# Altium schematic symbol library Connectors$.SchLib: 128 symbols
Pins are listed as number, name and electrical type; pins without a type are passive.

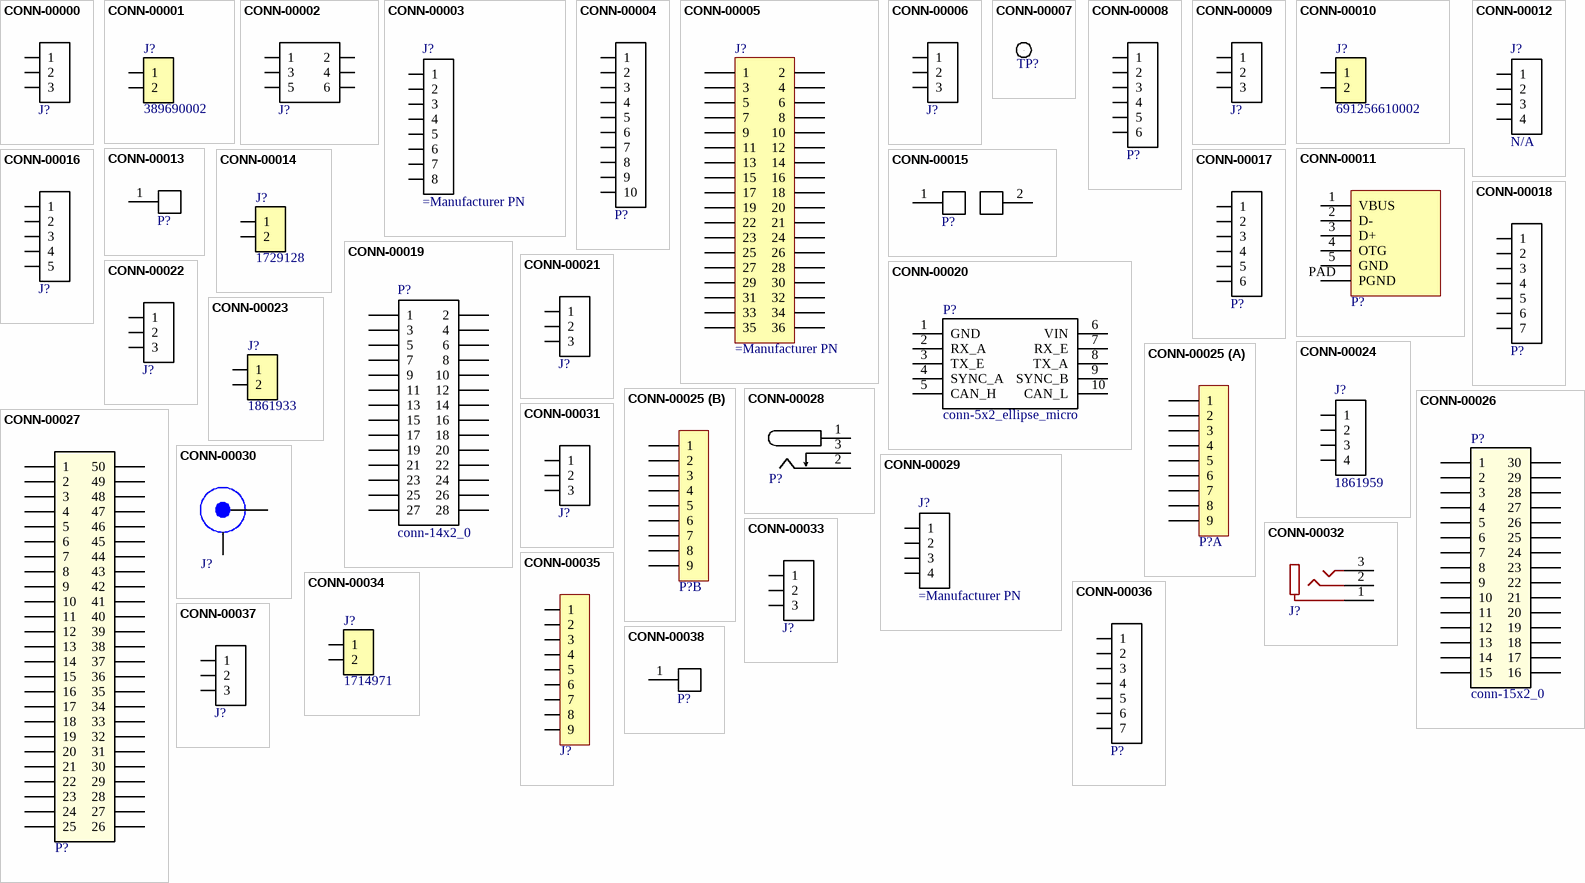
[diagram p0: symbols CONN-00000 to CONN-00038]

## CONN-00000
designator J?, comment conn-3x1_0  (value not drawn)
Term Blk, 3 Pos, 18A; Part Number: CONN-00000; Manufacturer: Phoenix Contact; Manufacturer PN: 1935174; Positions per level: 3; Levels: 1; Current: 18; Type: Terminal Block; Cost: 1.19
footprint TERM_5MM_3X1_0
pins: 1, 2, 3

## CONN-00001
designator J?, comment 389690002
Barrier Blk, 2 Pos, 50 A; Part Number: CONN-00001; Manufacturer: Molex; Positions per level: 2; Levels: 1; Current: 50; Type: Barrier Block; Manufacturer PN: 389690002; Cost: 1.68; Weight: 7.5
footprint BARR_0.5IN_2x1_0
pins: 1, 2

## CONN-00002
designator J?, comment conn-3x2_0  (value not drawn)
Header, 3x2, 0.1"; Part Number: CONN-00002; Manufacturer: Wurth Electronics Inc.; Manufacturer PN: 61300621121; Positions per level: 3; Levels: 2; Type: Header; Current: 3; Cost: 0.54
footprint HDDR_3X2_0
pins: 1, 2, 3, 4, 5, 6

## CONN-00003
designator J?
Header 8x1, 0.1"; Part Number: CONN-00003; Positions per level: 8; Levels: 1
footprint HDDR_8X1_0
pins: 1, 2, 3, 4, 5, 6, 7, 8

## CONN-00004
designator P?, comment conn-10x1_0  (value not drawn)
Header 10x1, 0.1"; Part Number: CONN-00004; Positions per level: 10; Levels: 1
footprint HDDR_10X1_0
pins: 1, 2, 3, 4, 5, 6, 7, 8, 9, 10

## CONN-00005
designator J?
Header 18x2, 0.1"; Part Number: CONN-00005; Positions per level: 18; Levels: 2
footprint HDDR_18X2_0
pins: 1, 2, 3, 4, 5, 6, 7, 8, 9, 10, 11, 12, 13, 14, 15, 16, 17, 18, 19, 20, 21, 22, 23, 24, 25, 26, 27, 28, 29, 30, 31, 32, 33, 34, 35, 36

## CONN-00006
designator J?, comment conn-3x1_0  (value not drawn)
JST XH 3x1, TH; Part Number: CONN-00006; Manufacturer PN: B3B-XH-A; Positions per level: 3; Levels: 1; Type: Header; Current: 3; Manufacturer: JST
footprint JST_XH_3_0
pins: 1, 2, 3

## CONN-00007
designator TP?, comment th  (value not drawn)
Thru-hole, 0.03"; Part Number: CONN-00007; Positions per level: 1; Type: Thru-hole; Levels: 1
footprint th_30
pins: 1

## CONN-00008
designator P?, comment conn-6x1_0  (value not drawn)
Header 6x1, 0.1"; Part Number: CONN-00008; Positions per level: 6; Levels: 1
footprint HDDR_6X1_0
pins: 1, 2, 3, 4, 5, 6

## CONN-00009
designator J?, comment conn-3x1_0  (value not drawn)
Term Blk, 3 Pos, 30A, 0.25" Pitch, 10-30 AWG, Rising Cage Clamp; Part Number: CONN-00009; Manufacturer: Phoenix Contact; Manufacturer PN: 1714968; Positions per level: 3; Levels: 1; Current: 30; Type: Terminal Block
footprint PHOENIX_MKDS_6.35MM_3x1
pins: 1, 2, 3

## CONN-00010
designator J?, comment 691256610002
Term Blk, 2 Pos, 0.4", 58A; Part Number: CONN-00010; Manufacturer: Wurth Electronics Inc.; Positions per level: 2; Levels: 1; Current: 58; Type: Terminal Block; Manufacturer PN: 691256610002
footprint TERM_0.4IN_2x1_0
pins: 1, 2

## CONN-00011
designator P?, comment usb_micro_b  (value not drawn)
USB Micro B Type Receptacle; Part Number: CONN-00011; Manufacturer: Amphenol; Manufacturer PN: 10118192; Positions per level: 5; Levels: 1; Current: 1.8; Type: USB Micro B
footprint 10118192
pins: 1 VBUS, 2 D-, 3 D+, 4 OTG, 5 GND, PAD PGND

## CONN-00012
designator J?, comment N/A
Pad 4x1, 1mm; Part Number: CONN-00012; Positions per level: 4; Levels: 1; Manufacturer PN: N/A
footprint pad_rect_4x1_1mm
pins: 1, 2, 3, 4

## CONN-00013
designator P?, comment conn-1x1_0  (value not drawn)
Pad 1x1, 1mm; Part Number: CONN-00013; Positions per level: 1; Levels: 1; Manufacturer PN: N/A
footprint pad_rect_1x1_8mm
pins: 1 P

## CONN-00014
designator J?, comment 1729128
Term Blk, 2 Pos, 0.2", 10A, 14-30 AWG, Rising Cage Clamp; Part Number: CONN-00014; Manufacturer: Phoenix Contact; Positions per level: 2; Levels: 1; Current: 10; Type: Terminal Block; Manufacturer PN: 1729128
footprint PHOENIX_MKDS_5.08MM_2x1
pins: 1, 2

## CONN-00015
designator P?, comment conn-fuse-holder_0  (value not drawn)
Fuse Holder, 30A, 500V, LP-Mini 897, ATOF 257; Part Number: CONN-00015; Manufacturer: Keystone Electronics; Manufacturer PN: 3557-2; Positions per level: 2; Levels: 1; Current: 30; Cost: 1.03
footprint FUSE_HOLDER_KEYSTONE_3557-2
pins: 1, 2

## CONN-00016
designator J?, comment conn-5x1_0  (value not drawn)
JST PHR 5x1; Part Number: CONN-00016; Positions per level: 5; Levels: 1; Type: Header; Manufacturer: JST
footprint JST_PHR_5_0
pins: 1, 2, 3, 4, 5

## CONN-00017
designator P?, comment conn-6x1_0  (value not drawn)
JST PHR 6x1; Part Number: CONN-00017; Positions per level: 6; Levels: 1; Type: Header; Manufacturer: JST
footprint JST_PHR_6_0
pins: 1, 2, 3, 4, 5, 6

## CONN-00018
designator P?, comment conn-7x1_0  (value not drawn)
JST PHR 7x1; Part Number: CONN-00018; Positions per level: 7; Levels: 1; Type: Header; Manufacturer: JST
footprint JST_PHR_7_0
pins: 1, 2, 3, 4, 5, 6, 7

## CONN-00019
designator P?, comment conn-14x2_0
Header, 14x2, 0.1"; Part Number: CONN-00019; Positions per level: 14; Levels: 2; Type: Header
footprint HDDR_14x2_0
pins: 1, 2, 3, 4, 5, 6, 7, 8, 9, 10, 11, 12, 13, 14, 15, 16, 17, 18, 19, 20, 21, 22, 23, 24, 25, 26, 27, 28

## CONN-00020
designator P?, comment conn-5x2_ellipse_micro
Harwin Gecko connector, 10-pin, thru-hole; Part Number: CONN-00020; Manufacturer PN: G125-MV11005L0P; Positions per level: 5; Levels: 2; Type: Thru-hole; Manufacturer: Harwin; Cost: 4.45
footprint HARWIN_GECKO_5x2
pins: 1 GND, 2 RX_A, 3 TX_E, 4 SYNC_A, 5 CAN_H, 6 VIN, 7 RX_E, 8 TX_A, 9 SYNC_B, 10 CAN_L

## CONN-00021
designator J?, comment conn-3x1_0  (value not drawn)
Term Blk, 3 Pos, 0.2", 10A, 14-30 AWG, Rising Cage Clamp; Part Number: CONN-00021; Manufacturer: Phoenix Contact; Manufacturer PN: 1729131; Positions per level: 3; Levels: 1; Current: 10; Type: Terminal Block; Cost: 0.79
footprint PHOENIX_MKDS_5.08MM_3x1
pins: 1, 2, 3

## CONN-00022
designator J?, comment conn-3x1_0  (value not drawn)
Term Blk, 3 Pos, 8A, 3.5mm Pitch, Screwless; Part Number: CONN-00022; Manufacturer: Phoenix Contact; Manufacturer PN: 1861946; Positions per level: 3; Levels: 1; Current: 8; Type: Terminal Block; Cost: 1.19; Weight: 1.7
footprint TERM_3.50MM_3x1_0
pins: 1, 2, 3

## CONN-00023
designator J?, comment 1861933
Term Blk, 2 Pos, 8A, 3.5mm Pitch, Screwless; Part Number: CONN-00023; Manufacturer: Phoenix Contact; Positions per level: 2; Levels: 1; Current: 8; Type: Terminal Block; Manufacturer PN: 1861933; Cost: 0.79; Weight: 1.13
footprint TERM_3.50MM_2x1_0
pins: 1, 2

## CONN-00024
designator J?, comment 1861959
Term Blk, 4 Pos, 8A, 3.5mm Pitch, Screwless; Part Number: CONN-00024; Manufacturer: Phoenix Contact; Positions per level: 4; Levels: 1; Current: 8; Type: Terminal Block; Manufacturer PN: 1861959; Cost: 1.67; Weight: 2.3
footprint TERM_3.50MM_4x1_0
pins: 1, 2, 3, 4

## CONN-00025
designator P?, comment conn-9x1_x2  (value not drawn)
D-Sub, Dual 9-pin; Part Number: CONN-00025; Manufacturer: NorComp; Manufacturer PN: 178-009-513R571; Positions per level: 9; Levels: 2; Type: Thru-hole; Cost: 7.32; Weight: 22.69
footprint D_SUB_9x2_0
part A pins: 1, 2, 3, 4, 5, 6, 7, 8, 9
part B pins: 10 1, 11 2, 12 3, 13 4, 14 5, 15 6, 16 7, 17 8, 18 9

## CONN-00026
designator P?, comment conn-15x2_0
D-Sub, Dual 15-pin; Part Number: CONN-00026; Manufacturer: NorComp; Manufacturer PN: 178-015-513R571; Positions per level: 15; Levels: 2; Type: Thru-hole; Cost: 9.34
footprint D_SUB_15x2_0
pins: 1, 2, 3, 4, 5, 6, 7, 8, 9, 10, 11, 12, 13, 14, 15, 16, 17, 18, 19, 20, 21, 22, 23, 24, 25, 26, 27, 28, 29, 30

## CONN-00027
designator P?, comment conn-25x2_0  (value not drawn)
D-Sub, Dual 25-pin; Part Number: CONN-00027; Manufacturer: NorComp; Manufacturer PN: 178-025-513R491; Positions per level: 25; Levels: 2; Type: Thru-hole; Cost: 10.21
footprint D_SUB_25x2_0
pins: 1, 2, 3, 4, 5, 6, 7, 8, 9, 10, 11, 12, 13, 14, 15, 16, 17, 18, 19, 20, 21, 22, 23, 24, 25, 26, 27, 28, 29, 30, 31, 32, 33, 34, 35, 36, 37, 38, 39, 40, 41, 42, 43, 44, 45, 46, 47, 48, 49, 50

## CONN-00028
designator P?, comment conn-barrel_2.5x5.5MM_0  (value not drawn)
Barrel, 2.5x5.5mm; Part Number: CONN-00028; Manufacturer: CUI; Manufacturer PN: PJ-102B; Current: 2.5; Type: Thru-hole; Cost: 0.64
footprint BARREL_2.5x5.5MM_0
pins: 1 VCC, 2 GND, 3

## CONN-00029
designator J?
Header 4x1, 0.1"; Part Number: CONN-00029; Positions per level: 4; Levels: 1; Type: Header
footprint HDDR_4x1_0
pins: 1, 2, 3, 4

## CONN-00030
designator J?, comment conn-bnc_0  (value not drawn)
BNC Jack, 75Ohm, Edge Mount; Part Number: CONN-00030; Manufacturer: Samtec; Manufacturer PN: BNC7T-J-P-GN-ST-EM1; Type: BNC; Cost: 10.24
footprint BNC_SAMTEC
pins: 1, 2

## CONN-00031
designator J?, comment conn-3x1_0  (value not drawn)
Barrier Blk, 3 Pos, 20A; Part Number: CONN-00031; Manufacturer: TE Connectivity; Manufacturer PN: 4DB-P108-03; Positions per level: 3; Levels: 1; Current: 20; Type: Barrier Block; Cost: 1.18
footprint BARR_4DB-P108-03
pins: 1, 2, 3

## CONN-00032
designator J?, comment conn-audio-3.5MM  (value not drawn)
Audio Jack, 3.5mm; Part Number: CONN-00032; Manufacturer: CUI; Manufacturer PN: SJ1-3553NG; Type: Audio Jack
footprint AUDIO_3.5MM_SJ1-3553NG
pins: 1, 2, 3

## CONN-00033
designator J?, comment conn-3x1_0  (value not drawn)
Barrier Blk, 3 Pos, 50 A; Part Number: CONN-00033; Manufacturer: Molex; Manufacturer PN: 389690003; Positions per level: 3; Levels: 1; Current: 50; Type: Barrier Block; Cost: 2.96; Weight: 10
footprint BARR_0.5IN_3x1_0
pins: 1, 2, 3

## CONN-00034
designator J?, comment 1714971
Term Blk, 2 Pos, 30A, 690V, 9.52mm Pitch, MKDS series; Part Number: CONN-00034; Manufacturer: Phoenix Contact; Positions per level: 2; Levels: 1; Type: Terminal Block; Manufacturer PN: 1714971; Cost: 1.71
footprint PHOENIX_MKDS_9.53MM_2x1
pins: 1, 2

## CONN-00035
designator J?, comment conn-9x1_0  (value not drawn)
D-Sub, 9-pin; Part Number: CONN-00035; Manufacturer: NorComp; Manufacturer PN: 182-009-213R561; Positions per level: 9; Levels: 1; Type: Thru-hole; Cost: 2.27; Weight: 8.89
footprint 182-009-213RYY1
pins: 1, 2, 3, 4, 5, 6, 7, 8, 9

## CONN-00036
designator P?, comment conn-7x1_0  (value not drawn)
JST XH 7x1, THT; Part Number: CONN-00036; Manufacturer PN: B7B-XH-A; Positions per level: 7; Levels: 1; Current: 3; Type: Thru-hole; Manufacturer: JST
footprint JST_XH_7_0
pins: 1, 2, 3, 4, 5, 6, 7

## CONN-00037
designator J?, comment conn-3x1_0  (value not drawn)
Header, 3x1, 0.1"; Part Number: CONN-00037; Positions per level: 3; Levels: 1; Type: Header
footprint HDDR_3x1_0
pins: 1, 2, 3

## CONN-00038
designator P?, comment conn-1x1_0  (value not drawn)
Banana Jack,; Part Number: CONN-00038; Manufacturer: Cal Test Electronics; Manufacturer PN: CT3151SP-0; Positions per level: 1; Type: Thru-hole; Levels: 1; Cost: 2.05
footprint CT3151SP_0
pins: 1 P

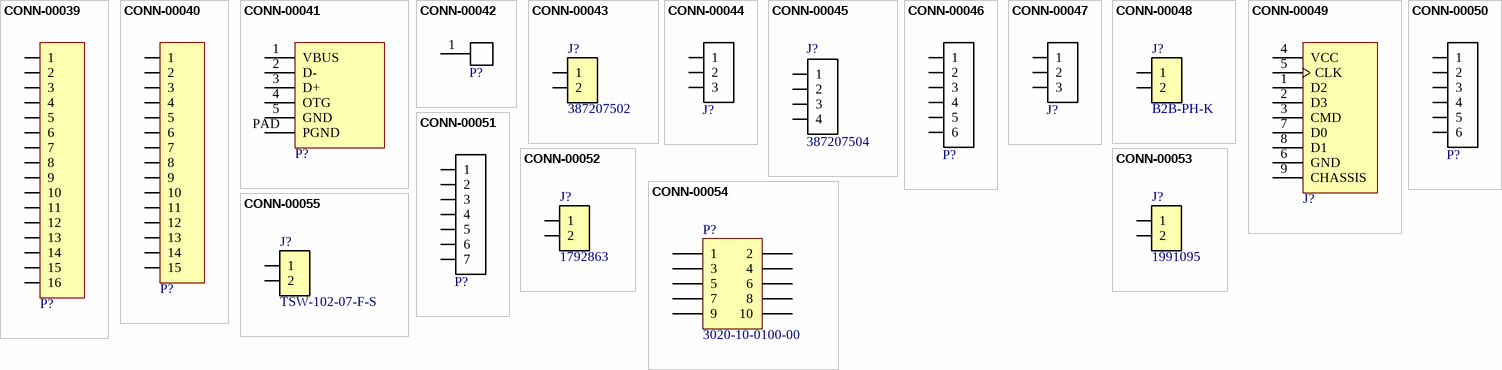
[diagram p1: symbols CONN-00039 to CONN-00055]

## CONN-00039
designator P?, comment conn-16x1_0  (value not drawn)
Header, 16x1, 0.1"; Part Number: CONN-00039; Positions per level: 16; Levels: 1; Type: Header
footprint HDDR_16x1_0
pins: 1, 2, 3, 4, 5, 6, 7, 8, 9, 10, 11, 12, 13, 14, 15, 16

## CONN-00040
designator P?, comment conn-15x1_0  (value not drawn)
Header, 15x1, 0x1"; Part Number: CONN-00040; Positions per level: 15; Levels: 1; Type: Header
footprint HDDR_15x1_0
pins: 1, 2, 3, 4, 5, 6, 7, 8, 9, 10, 11, 12, 13, 14, 15

## CONN-00041
designator P?, comment usb_micro_b  (value not drawn)
USB Mini B, Surface Mount; Part Number: CONN-00041; Manufacturer: Amphenol; Manufacturer PN: 10033526-N3212LF; Positions per level: 5; Levels: 1; Type: USB Mini B; Cost: 0.77
footprint I10033526
pins: 1 VBUS, 2 D-, 3 D+, 4 OTG, 5 GND, PAD PGND

## CONN-00042
designator P?, comment conn-1x1_0  (value not drawn)
Screw Terminal, M4, 30A; Part Number: CONN-00042; Manufacturer: Keystone; Manufacturer PN: 7798; Positions per level: 1; Type: Screw Terminal; Levels: 1; Cost: 0.5; Weight: 3.27
footprint KEYSTONE_7798
pins: 1 P

## CONN-00043
designator J?, comment 387207502
Barrier Blk, 2 Pos, 25A, 300V, 0.375" pitch; Part Number: CONN-00043; Manufacturer: Molex; Positions per level: 2; Levels: 1; Type: Barrier Block; Manufacturer PN: 387207502; Cost: 2.21
footprint MOLEX_387207502
pins: 1, 2

## CONN-00044
designator J?, comment conn-3x1_0  (value not drawn)
Barrier Blk, 3 Pos, 25A, 300V, 0.375" pitch; Part Number: CONN-00044; Manufacturer: Molex; Manufacturer PN: 387207503; Positions per level: 3; Levels: 1; Type: Barrier Block; Cost: 2.96
footprint MOLEX_387207503
pins: 1, 2, 3

## CONN-00045
designator J?, comment 387207504
Barrier Blk, 4 Pos, 25A, 300V, 0.375" pitch; Part Number: CONN-00045; Manufacturer: Molex; Positions per level: 4; Levels: 1; Type: Barrier Block; Manufacturer PN: 387207504; Cost: 3.1
footprint MOLEX_387207504
pins: 1, 2, 3, 4

## CONN-00046
designator P?, comment conn-6x1_0  (value not drawn)
Female Socket, 6x1, 0.1"; Part Number: CONN-00046; Manufacturer: Samtec; Manufacturer PN: SSW-106-01-F-S; Positions per level: 6; Levels: 1; Type: Socket; Cost: 0.8
footprint SOCK_6x1_0
pins: 1, 2, 3, 4, 5, 6

## CONN-00047
designator J?, comment conn-3x1_0  (value not drawn)
JST PH 3x1, THT, 2.00mm Pitch; Part Number: CONN-00047; Manufacturer PN: B3B-PH-K; Positions per level: 3; Levels: 1; Type: Header; Manufacturer: JST; Cost: 0.19
footprint JST_PHR_3_0
pins: 1, 2, 3

## CONN-00048
designator J?, comment B2B-PH-K
JST PH 2x1, THT, 2.00mm Pitch; Part Number: CONN-00048; Positions per level: 2; Levels: 1; Type: Header; Manufacturer: JST; Manufacturer PN: B2B-PH-K; Cost: 0.19
footprint JST_PHR_2_0
pins: 1, 2

## CONN-00049
designator J?, comment conn-micro-SD_0  (value not drawn)
Micro SD Card Slot, Push-Push, SMD, 3M; Part Number: CONN-00049; Manufacturer PN: 2908-05WB-MG; Positions per level: 8; Levels: 1; Type: Card Socket; Manufacturer: 3M; Cost: 3.72
footprint 3M_2900_0
pins: 1 D2, 2 D3, 3 CMD, 4 VCC, 5 CLK, 6 GND, 7 D0, 8 D1, 9 CHASSIS

## CONN-00050
designator P?, comment conn-6x1_0  (value not drawn)
Header, 6x1, 0.1", Right-Angle; Part Number: CONN-00050; Manufacturer: Samtec; Manufacturer PN: TSW-106-08-F-S-RA; Positions per level: 6; Levels: 1; Type: Header; Cost: 0.54
footprint HDDR_6x1_RA
pins: 1, 2, 3, 4, 5, 6

## CONN-00051
designator P?, comment conn-7x1_0  (value not drawn)
Barrier Blk, 7 Pos, 25A, 300V, 0.375" pitch; Part Number: CONN-00051; Manufacturer: Molex; Manufacturer PN: 387207507; Positions per level: 7; Levels: 1; Type: Barrier Block; Cost: 4.79
footprint MOLEX_387207507
pins: 1, 2, 3, 4, 5, 6, 7

## CONN-00052
designator J?, comment 1792863
Terminal Blk, 2 Pos, 10A, 5.0mm Pitch, Screwless, 14-26AWG wire; Part Number: CONN-00052; Manufacturer: Phoenix Contact; Positions per level: 2; Levels: 1; Type: Terminal Block; Manufacturer PN: 1792863; Cost: 0.34
footprint PHOENIX_PTS_5.0MM_2x1
pins: 1, 2

## CONN-00053
designator J?, comment 1991095
Terminal Blk, 2 Pos, 20A, 5.0mm Pitch, Screwless, 12-24AWG; Part Number: CONN-00053; Manufacturer: Phoenix Contact; Positions per level: 2; Levels: 1; Type: Terminal Block; Manufacturer PN: 1991095; Cost: 1.23; Distributor Link: https://www.digikey.com/en/products/detail/phoenix-contact/1991095/2527261?s=N4IgTCBcDaIIwE4FwAwIKwgLoF8g
footprint PHOENIX_SPT_5.00MM_2x1
pins: 1, 2

## CONN-00054
designator P?, comment 3020-10-0100-00
Header, 10-pin IDC, 2.54mm Pitch; Part Number: CONN-00054; Manufacturer: CNC Tech; Positions per level: 5; Levels: 2; Type: Header; Manufacturer PN: 3020-10-0100-00; Cost: 0.58
footprint CNC_TECH_3020-10-0100-XX
pins: 1, 2, 3, 4, 5, 6, 7, 8, 9, 10

## CONN-00055
designator J?, comment TSW-102-07-F-S
Header, 2x1, 0.1"; Part Number: CONN-00055; Manufacturer: Samtec; Positions per level: 2; Levels: 1; Type: Header; Manufacturer PN: TSW-102-07-F-S; Cost: 0.2
footprint HDDR_2x1_0
pins: 1, 2

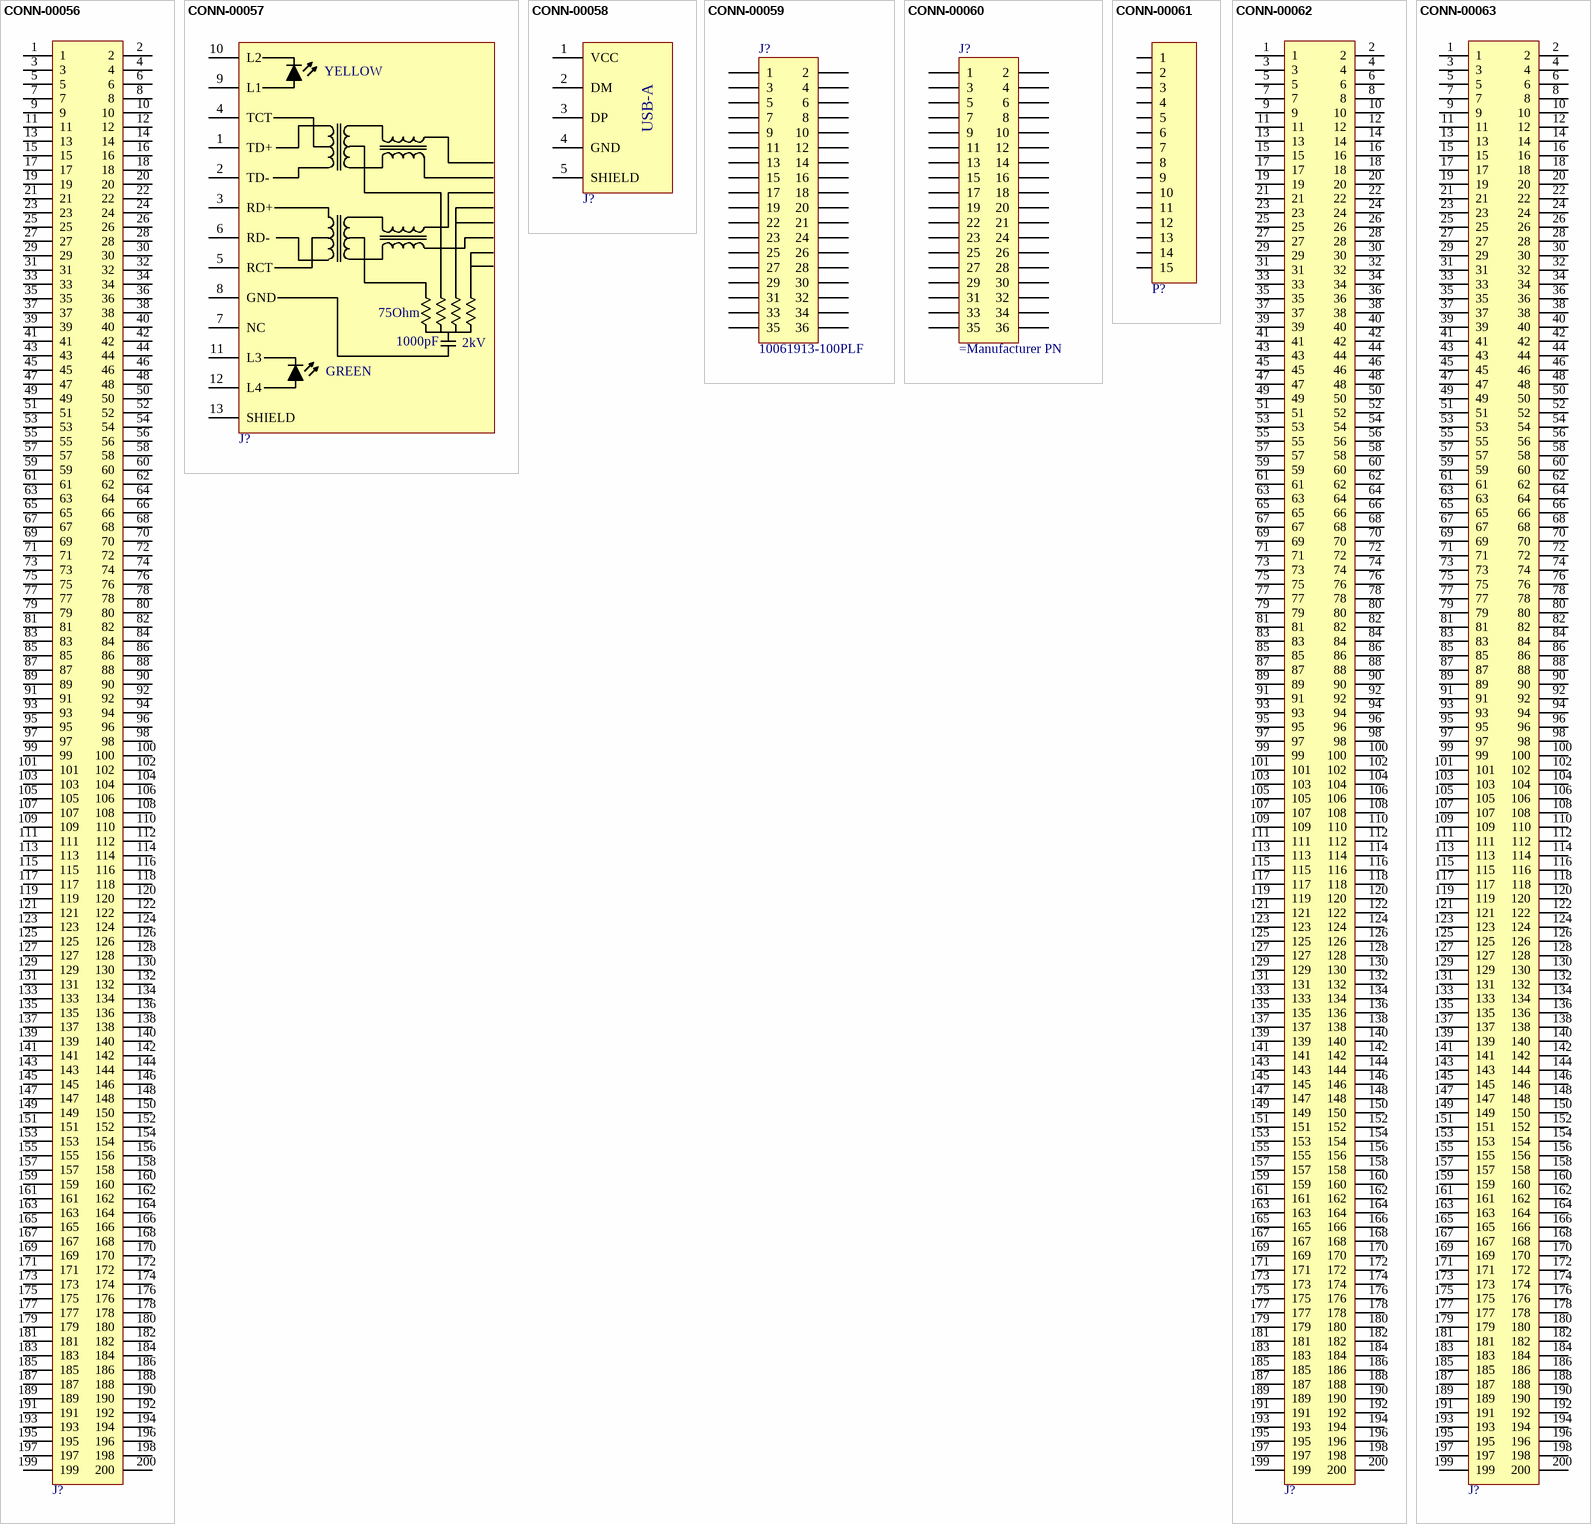
[diagram p2: symbols CONN-00056 to CONN-00063]

## CONN-00056
designator J?, comment conn-100x2_0  (value not drawn)
Card-Edge Socket, DDR1 SODIMM (2.5V), 200-pin, Vertical; Part Number: CONN-00056; Manufacturer: TE Connectivity; Manufacturer PN: 2040910-1; Positions per level: 100; Levels: 2; Type: Card Socket; Cost: 5.43
footprint DDR1-SODIMM-V
pins: 1, 2, 3, 4, 5, 6, 7, 8, 9, 10, 11, 12, 13, 14, 15, 16, 17, 18, 19, 20, 21, 22, 23, 24, 25, 26, 27, 28, 29, 30, 31, 32, 33, 34, 35, 36, 37, 38, 39, 40, 41, 42, 43, 44, 45, 46, 47, 48, 49, 50, 51, 52, 53, 54, 55, 56, 57, 58, 59, 60, 61, 62, 63, 64, 65, 66, 67, 68, 69, 70, 71, 72, 73, 74, 75, 76, 77, 78, 79, 80, 81, 82, 83, 84, 85, 86, 87, 88, 89, 90, 91, 92, 93, 94, 95, 96, 97, 98, 99, 100, 101, 102, 103, 104, 105, 106, 107, 108, 109, 110, 111, 112, 113, 114, 115, 116, 117, 118, 119, 120, 121, 122, 123, 124, 125, 126, 127, 128, 129, 130, 131, 132, 133, 134, 135, 136, 137, 138, 139, 140, 141, 142, 143, 144, 145, 146, 147, 148, 149, 150, 151, 152, 153, 154, 155, 156, 157, 158, 159, 160, 161, 162, 163, 164, 165, 166, 167, 168, 169, 170, 171, 172, 173, 174, 175, 176, 177, 178, 179, 180, 181, 182, 183, 184, 185, 186, 187, 188, 189, 190, 191, 192, 193, 194, 195, 196, 197, 198, 199, 200

## CONN-00057
designator J?, comment amphenol-RJMG1B  (value not drawn)
RJ45 Modular Mag-Jack, 8P8C, 10/100 Base-T; Part Number: CONN-00057; Manufacturer PN: RJMG1BD3B8K1ANR; Type: Jack; Manufacturer: Amphenol; Cost: 3.92; Distributor Link: https://www.digikey.com/en/products/detail/amphenol-icc-commercial-products/RJMG1BD3B8K1ANR/5359794
footprint AMPHENOL_RJMG1B
pins: 1 TD+, 2 TD-, 3 RD+, 4 TCT, 5 RCT, 6 RD-, 7 NC, 8 GND, 9 L1, 10 L2, 11 L3, 12 L4, 13 SHIELD
text: YELLOW; 75Ohm; 1000pF; 2kV; GREEN

## CONN-00058
designator J?, comment usb_a  (value not drawn)
USB-A Jack, USB 2.0, SMD Right-Angle; Part Number: CONN-00058; Manufacturer: TE Connectivity; Manufacturer PN: 1932638-3; Positions per level: 4; Levels: 1; Type: Jack; Cost: 1.52; Distributor Link: https://www.digikey.com/en/products/detail/te-connectivity-amp-connectors/1932638-3/4731612
footprint TE_1932638-3
pins: 1 VCC, 2 DM, 3 DP, 4 GND, 5 SHIELD
text: USB-A

## CONN-00059
designator J?, comment 10061913-100PLF
Card-Edge Socket, 36-pin PCI Express, Vertical SMD; Part Number: CONN-00059; Manufacturer: Amphenol; Positions per level: 18; Levels: 2; Type: Card Socket; Manufacturer PN: 10061913-100PLF; Cost: 2.6
footprint AMPHENOL_10061913-XX0
pins: 1, 2, 3, 4, 5, 6, 7, 8, 9, 10, 11, 12, 13, 14, 15, 16, 17, 18, 19, 20, 21, 22, 23, 24, 25, 26, 27, 28, 29, 30, 31, 32, 33, 34, 35, 36

## CONN-00060
designator J?
Card-Edge Contacts, 36-pin PCI Express, 1.0mm Pitch; Part Number: CONN-00060; Positions per level: 18; Levels: 2; Type: Card Edge; Cost: 0
footprint PCIE_CARD_EDGE_36_1.0MM
pins: 1, 2, 3, 4, 5, 6, 7, 8, 9, 10, 11, 12, 13, 14, 15, 16, 17, 18, 19, 20, 21, 22, 23, 24, 25, 26, 27, 28, 29, 30, 31, 32, 33, 34, 35, 36

## CONN-00061
designator P?, comment conn-15x1_0  (value not drawn)
Flat-Flex Cable Connector, Vertical, 15-Pos, 1.0mm Pitch SMD; Part Number: CONN-00061; Manufacturer: TE Connectivity; Manufacturer PN: 1-1734248-5; Positions per level: 15; Levels: 1; Type: Flat-Flex; Cost: 1.06
footprint TE_1-1734248-5
pins: 1, 2, 3, 4, 5, 6, 7, 8, 9, 10, 11, 12, 13, 14, 15

## CONN-00062
designator J?, comment conn-100x2_0  (value not drawn)
Card-Edge Socket, DDR2 SODIMM (1.8V) 200-pin , Right-Angle; Part Number: CONN-00062; Manufacturer: TE Connectivity; Manufacturer PN: 1473005-1; Positions per level: 100; Levels: 2; Type: Card Socket; Cost: 3.49
footprint TE_1473005-1
pins: 1, 2, 3, 4, 5, 6, 7, 8, 9, 10, 11, 12, 13, 14, 15, 16, 17, 18, 19, 20, 21, 22, 23, 24, 25, 26, 27, 28, 29, 30, 31, 32, 33, 34, 35, 36, 37, 38, 39, 40, 41, 42, 43, 44, 45, 46, 47, 48, 49, 50, 51, 52, 53, 54, 55, 56, 57, 58, 59, 60, 61, 62, 63, 64, 65, 66, 67, 68, 69, 70, 71, 72, 73, 74, 75, 76, 77, 78, 79, 80, 81, 82, 83, 84, 85, 86, 87, 88, 89, 90, 91, 92, 93, 94, 95, 96, 97, 98, 99, 100, 101, 102, 103, 104, 105, 106, 107, 108, 109, 110, 111, 112, 113, 114, 115, 116, 117, 118, 119, 120, 121, 122, 123, 124, 125, 126, 127, 128, 129, 130, 131, 132, 133, 134, 135, 136, 137, 138, 139, 140, 141, 142, 143, 144, 145, 146, 147, 148, 149, 150, 151, 152, 153, 154, 155, 156, 157, 158, 159, 160, 161, 162, 163, 164, 165, 166, 167, 168, 169, 170, 171, 172, 173, 174, 175, 176, 177, 178, 179, 180, 181, 182, 183, 184, 185, 186, 187, 188, 189, 190, 191, 192, 193, 194, 195, 196, 197, 198, 199, 200

## CONN-00063
designator J?, comment conn-100x2_0  (value not drawn)
Card-Edge, DDR1 SODIMM (2.5V), 200-pin; Part Number: CONN-00063; Positions per level: 100; Levels: 2; Type: Card Edge
footprint DDR1-SODIMM-CARD-EDGE
pins: 1, 2, 3, 4, 5, 6, 7, 8, 9, 10, 11, 12, 13, 14, 15, 16, 17, 18, 19, 20, 21, 22, 23, 24, 25, 26, 27, 28, 29, 30, 31, 32, 33, 34, 35, 36, 37, 38, 39, 40, 41, 42, 43, 44, 45, 46, 47, 48, 49, 50, 51, 52, 53, 54, 55, 56, 57, 58, 59, 60, 61, 62, 63, 64, 65, 66, 67, 68, 69, 70, 71, 72, 73, 74, 75, 76, 77, 78, 79, 80, 81, 82, 83, 84, 85, 86, 87, 88, 89, 90, 91, 92, 93, 94, 95, 96, 97, 98, 99, 100, 101, 102, 103, 104, 105, 106, 107, 108, 109, 110, 111, 112, 113, 114, 115, 116, 117, 118, 119, 120, 121, 122, 123, 124, 125, 126, 127, 128, 129, 130, 131, 132, 133, 134, 135, 136, 137, 138, 139, 140, 141, 142, 143, 144, 145, 146, 147, 148, 149, 150, 151, 152, 153, 154, 155, 156, 157, 158, 159, 160, 161, 162, 163, 164, 165, 166, 167, 168, 169, 170, 171, 172, 173, 174, 175, 176, 177, 178, 179, 180, 181, 182, 183, 184, 185, 186, 187, 188, 189, 190, 191, 192, 193, 194, 195, 196, 197, 198, 199, 200

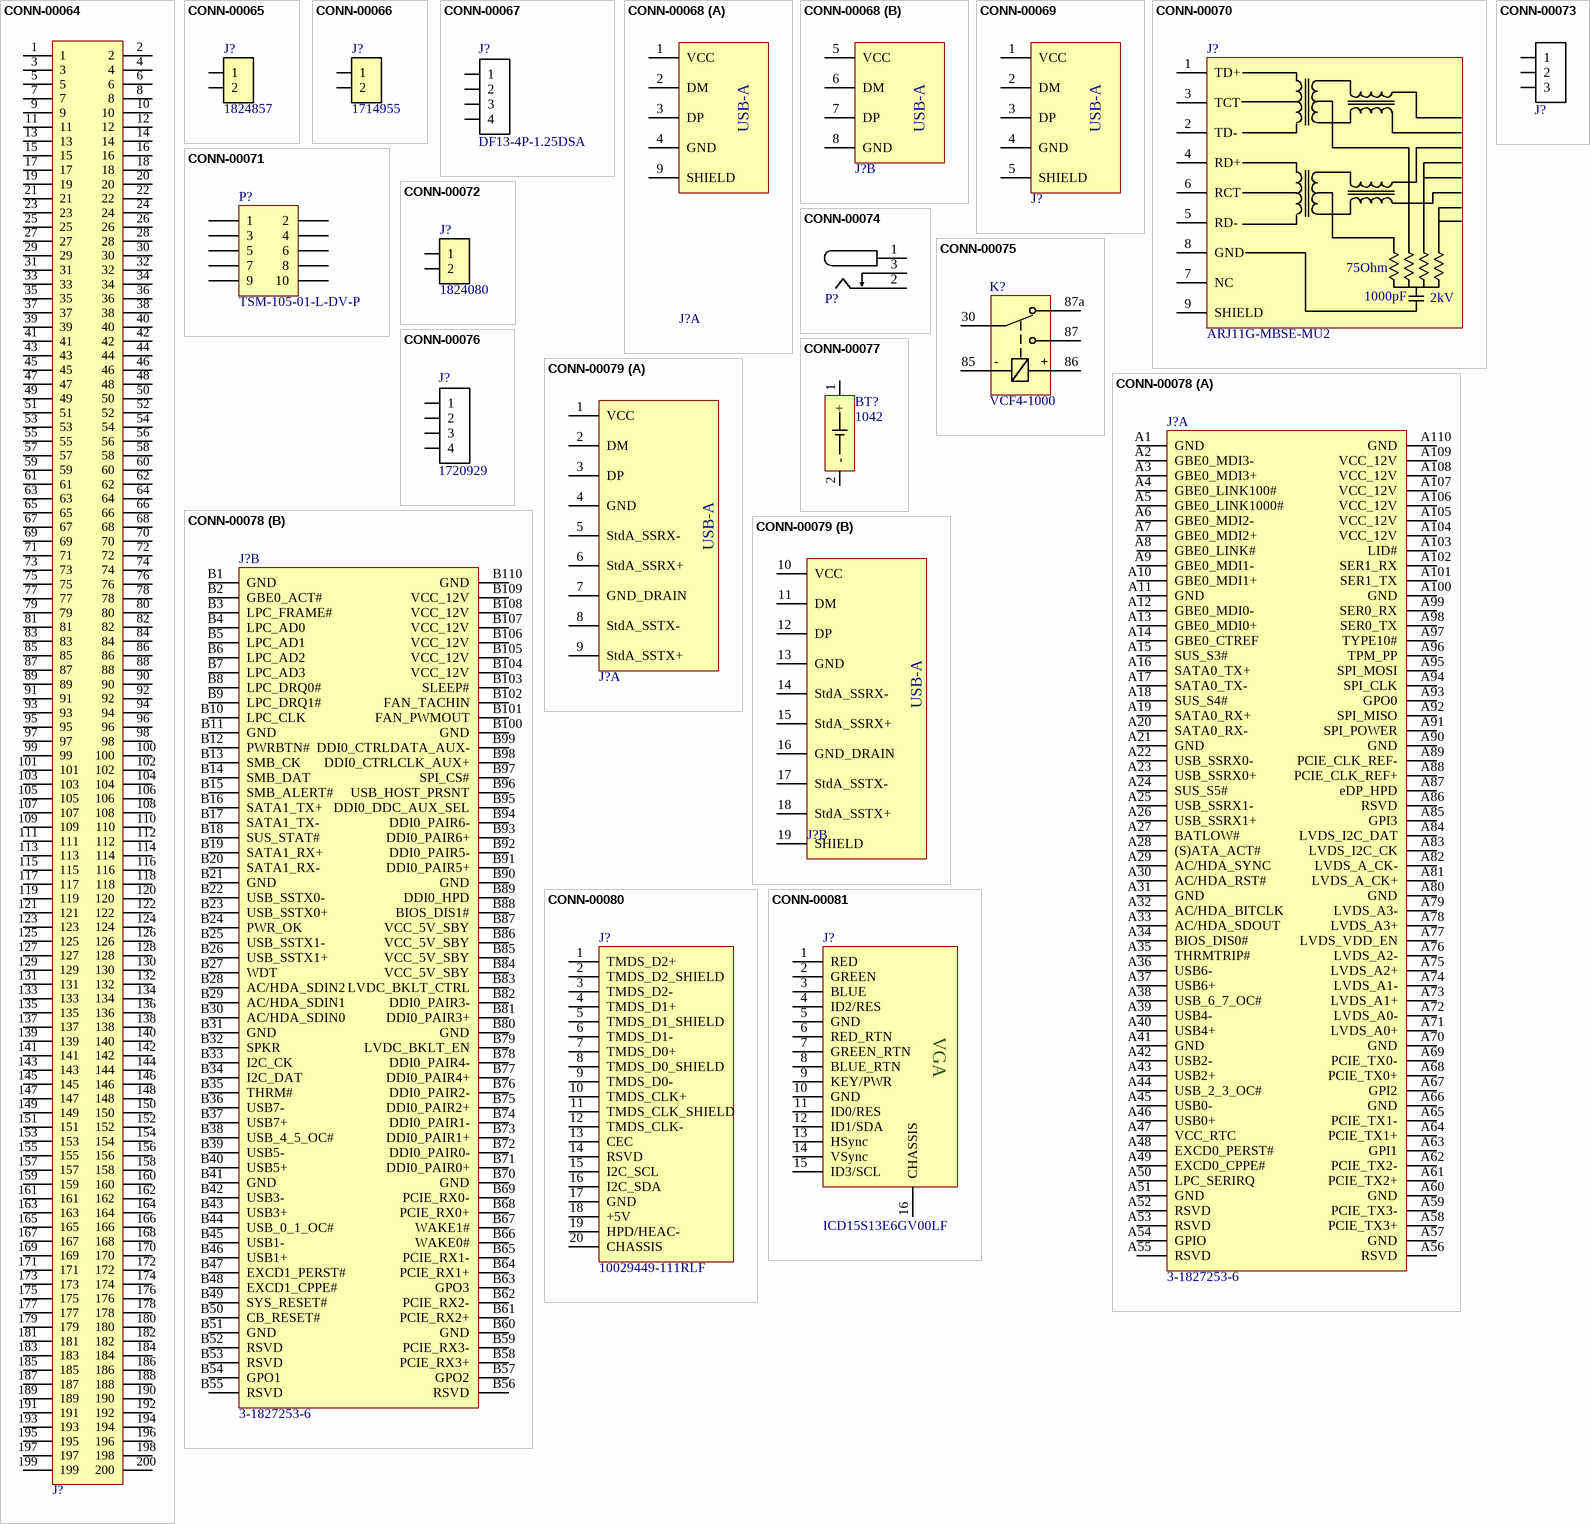
[diagram p3: symbols CONN-00064 to CONN-00081]

## CONN-00064
designator J?, comment conn-100x2_0  (value not drawn)
Card-Edge, DDR2 SODIMM (1.8V), 200-pin; Part Number: CONN-00064; Positions per level: 100; Levels: 2; Type: Card Edge
footprint DDR2-SODIMM-CARD-EDGE
pins: 1, 2, 3, 4, 5, 6, 7, 8, 9, 10, 11, 12, 13, 14, 15, 16, 17, 18, 19, 20, 21, 22, 23, 24, 25, 26, 27, 28, 29, 30, 31, 32, 33, 34, 35, 36, 37, 38, 39, 40, 41, 42, 43, 44, 45, 46, 47, 48, 49, 50, 51, 52, 53, 54, 55, 56, 57, 58, 59, 60, 61, 62, 63, 64, 65, 66, 67, 68, 69, 70, 71, 72, 73, 74, 75, 76, 77, 78, 79, 80, 81, 82, 83, 84, 85, 86, 87, 88, 89, 90, 91, 92, 93, 94, 95, 96, 97, 98, 99, 100, 101, 102, 103, 104, 105, 106, 107, 108, 109, 110, 111, 112, 113, 114, 115, 116, 117, 118, 119, 120, 121, 122, 123, 124, 125, 126, 127, 128, 129, 130, 131, 132, 133, 134, 135, 136, 137, 138, 139, 140, 141, 142, 143, 144, 145, 146, 147, 148, 149, 150, 151, 152, 153, 154, 155, 156, 157, 158, 159, 160, 161, 162, 163, 164, 165, 166, 167, 168, 169, 170, 171, 172, 173, 174, 175, 176, 177, 178, 179, 180, 181, 182, 183, 184, 185, 186, 187, 188, 189, 190, 191, 192, 193, 194, 195, 196, 197, 198, 199, 200

## CONN-00065
designator J?, comment 1824857
Terminal Block, 2 Pos, 10A, 5.08mm Pitch, SMD, Right-Angle, 16-24 AWG; Part Number: CONN-00065; Manufacturer: Phoenix Contact; Positions per level: 2; Levels: 1; Type: Terminal Block; Manufacturer PN: 1824857
footprint PHOENIX_SPT_SMD_5.08MM_2x1
pins: 1, 2

## CONN-00066
designator J?, comment 1714955
Terminal Block, 2 Pos, 30A, 300V, 6.35mm Pitch, Rising Cage 10-30 AWG wire; Part Number: CONN-00066; Manufacturer: Phoenix Contact; Positions per level: 2; Levels: 1; Type: Terminal Block; Manufacturer PN: 1714955; Cost: 1.71
footprint PHOENIX_MKDS_6.35MM_2x1
pins: 1, 2

## CONN-00067
designator J?, comment DF13-4P-1.25DSA
Header, DF13 4-pos 1.25mm Pitch; Part Number: CONN-00067; Manufacturer: Hirose Electric Co Ltd; Positions per level: 4; Levels: 1; Type: Header; Manufacturer PN: DF13-4P-1.25DSA; Cost: 0.43
footprint DF13-40-1.25mm
pins: 1, 2, 3, 4

## CONN-00068
designator J?, comment usb_a_x2  (value not drawn)
USB-A Jack x2, USB 2.0, Right-Angle, Thru-Hole; Part Number: CONN-00068; Manufacturer: CUI; Manufacturer PN: UJ2-ADH-1-TH; Positions per level: 4; Levels: 2; Type: Jack; Cost: 0.95; Distributor Link: https://www.digikey.com/en/products/detail/cui-devices/UJ2-ADH-1-TH/6187916
footprint CUI_UJ2-ADH-1-TH
part A pins: 1 VCC, 2 DM, 3 DP, 4 GND, 9 SHIELD
part B pins: 5 VCC, 6 DM, 7 DP, 8 GND
part A text: USB-A
part B text: USB-A

## CONN-00069
designator J?, comment usb_a  (value not drawn)
USB-A Jack, USB 2.0, Vertical, THT; Part Number: CONN-00069; Manufacturer: Molex; Manufacturer PN: 1050570001; Positions per level: 4; Levels: 1; Type: Jack; Cost: 1.29
footprint MOLEX_1050570001
pins: 1 VCC, 2 DM, 3 DP, 4 GND, 5 SHIELD
text: USB-A

## CONN-00070
designator J?, comment ARJ11G-MBSE-MU2
RJ45 Modular Mag-Jack, 8P8C, 10/100 Base-T, Vertical; Part Number: CONN-00070; Manufacturer: Abracon; Positions per level: 8; Levels: 1; Type: Jack; Manufacturer PN: ARJ11G-MBSE-MU2; Cost: 5.26
footprint ABRACON_ARJ11G-MB
pins: 1 TD+, 2 TD-, 3 TCT, 4 RD+, 5 RD-, 6 RCT, 7 NC, 8 GND, 9 SHIELD
text: 75Ohm; 1000pF; 2kV

## CONN-00071
designator P?, comment TSM-105-01-L-DV-P
Header, 5x2, 0.1", SMD; Part Number: CONN-00071; Manufacturer: Samtec; Positions per level: 5; Levels: 2; Type: Header; Manufacturer PN: TSM-105-01-L-DV-P; Cost: 1.17
footprint SAMTEC_SMD_HDDR_5x2
pins: 1, 2, 3, 4, 5, 6, 7, 8, 9, 10

## CONN-00072
designator J?, comment 1824080
Terminal Block, 2 Pos, 10A, 3.5mm Pitch, Screwless, Vertical, SMD; Part Number: CONN-00072; Manufacturer: Phoenix Contact; Positions per level: 2; Levels: 1; Type: Terminal Block; Manufacturer PN: 1824080; Cost: 2.52
footprint PHOENIX_SPT_SMD_3.5MM_2x1
pins: 1, 2

## CONN-00073
designator J?, comment conn-3x1_0  (value not drawn)
Terminal Block, 3 Pos, 30A, 600V, 9.53mm Pitch, Rising-Cage; Part Number: CONN-00073; Manufacturer: Phoenix Contact; Manufacturer PN: 1714984; Positions per level: 3; Levels: 1; Type: Terminal Block; Cost: 2.51
footprint PHOENIX_MKDS_9.53MM_3x1
pins: 1, 2, 3

## CONN-00074
designator P?, comment conn-barrel_0  (value not drawn)
Barrel Jack, 2.0x5.5mm IDxOD, Right-Angle; Part Number: CONN-00074; Manufacturer: Switchcraft; Manufacturer PN: RAPC722X; Positions per level: 3; Levels: 1; Type: Barrel Jack; Cost: 1.64
footprint SWITCHCRAFT_RAPC722X
pins: 1 VCC, 2 GND, 3

## CONN-00075
designator K?, comment VCF4-1000
Relay Socket, 12V 30A, Automotive Type B; Part Number: CONN-00075; Manufacturer: TE Connectivity; Positions per level: 5; Levels: 1; Type: Relay Socket; Manufacturer PN: VCF4-1000; Cost: 2.75
footprint TE_CONN_VCF4-1000
pins: 30, 85 -, 86 +, 87, 87a

## CONN-00076
designator J?, comment 1720929
Terminal Block Header, 4 pos, 41A, Vertical, 7.62mm Pitch; Part Number: CONN-00076; Manufacturer: Phoenix Contact; Positions per level: 4; Levels: 1; Type: Terminal Block; Manufacturer PN: 1720929; Cost: 6.67
footprint PHOENIX_PCV_7.62MM_4x1
pins: 1, 2, 3, 4

## CONN-00077
designator BT?, comment 1042
Battery Holder, 18650, SMD; Part Number: CONN-00077; Manufacturer: Keystone; Positions per level: 2; Levels: 1; Type: Battery Holder; Manufacturer PN: 1042; Cost: 2.76; Distributor Link: https://www.digikey.com/en/products/detail/mpd-memory-protection-devices/BU2032SM-JJ-GTR/1596664
footprint KEYSTONE_1042
pins: 1 +, 2 -

## CONN-00078
designator J?, comment 3-1827253-6
Plug, 220 pos, COM Express Board-Board connector; Part Number: CONN-00078; Manufacturer: TE Connectivity; Positions per level: 110; Levels: 2; Type: Plug; Manufacturer PN: 3-1827253-6; Cost: 18.99; Distributor Link: https://www.digikey.com/en/products/detail/te-connectivity-amp-connectors/3-1827253-6/2188003
footprint TE_CONN_1827253
part A pins: A1 GND, A2 GBE0_MDI3-, A3 GBE0_MDI3+, A4 GBE0_LINK100#, A5 GBE0_LINK1000#, A6 GBE0_MDI2-, A7 GBE0_MDI2+, A8 GBE0_LINK#, A9 GBE0_MDI1-, A10 GBE0_MDI1+, A11 GND, A12 GBE0_MDI0-, A13 GBE0_MDI0+, A14 GBE0_CTREF, A15 SUS_S3#, A16 SATA0_TX+, A17 SATA0_TX-, A18 SUS_S4#, A19 SATA0_RX+, A20 SATA0_RX-, A21 GND, A22 USB_SSRX0-, A23 USB_SSRX0+, A24 SUS_S5#, A25 USB_SSRX1-, A26 USB_SSRX1+, A27 BATLOW#, A28 (S)ATA_ACT#, A29 AC/HDA_SYNC, A30 AC/HDA_RST#, A31 GND, A32 AC/HDA_BITCLK, A33 AC/HDA_SDOUT, A34 BIOS_DIS0#, A35 THRMTRIP#, A36 USB6-, A37 USB6+, A38 USB_6_7_OC#, A39 USB4-, A40 USB4+, A41 GND, A42 USB2-, A43 USB2+, A44 USB_2_3_OC#, A45 USB0-, A46 USB0+, A47 VCC_RTC, A48 EXCD0_PERST#, A49 EXCD0_CPPE#, A50 LPC_SERIRQ, A51 GND, A52 RSVD, A53 RSVD, A54 GPIO, A55 RSVD, A56 RSVD, A57 GND, A58 PCIE_TX3+, A59 PCIE_TX3-, A60 GND, A61 PCIE_TX2+, A62 PCIE_TX2-, A63 GPI1, A64 PCIE_TX1+, A65 PCIE_TX1-, A66 GND, A67 GPI2, A68 PCIE_TX0+, A69 PCIE_TX0-, A70 GND, A71 LVDS_A0+, A72 LVDS_A0-, A73 LVDS_A1+, A74 LVDS_A1-, A75 LVDS_A2+, A76 LVDS_A2-, A77 LVDS_VDD_EN, A78 LVDS_A3+, A79 LVDS_A3-, A80 GND, A81 LVDS_A_CK+, A82 LVDS_A_CK-, A83 LVDS_I2C_CK, A84 LVDS_I2C_DAT, A85 GPI3, A86 RSVD, A87 eDP_HPD, A88 PCIE_CLK_REF+, A89 PCIE_CLK_REF-, A90 GND, A91 SPI_POWER, A92 SPI_MISO, A93 GPO0, A94 SPI_CLK, A95 SPI_MOSI, A96 TPM_PP, A97 TYPE10#, A98 SER0_TX, A99 SER0_RX, A100 GND, A101 SER1_TX, A102 SER1_RX, A103 LID#, A104 VCC_12V, A105 VCC_12V, A106 VCC_12V, A107 VCC_12V, A108 VCC_12V, A109 VCC_12V, A110 GND
part B pins: B1 GND, B2 GBE0_ACT#, B3 LPC_FRAME#, B4 LPC_AD0, B5 LPC_AD1, B6 LPC_AD2, B7 LPC_AD3, B8 LPC_DRQ0#, B9 LPC_DRQ1#, B10 LPC_CLK, B11 GND, B12 PWRBTN#, B13 SMB_CK, B14 SMB_DAT, B15 SMB_ALERT#, B16 SATA1_TX+, B17 SATA1_TX-, B18 SUS_STAT#, B19 SATA1_RX+, B20 SATA1_RX-, B21 GND, B22 USB_SSTX0-, B23 USB_SSTX0+, B24 PWR_OK, B25 USB_SSTX1-, B26 USB_SSTX1+, B27 WDT, B28 AC/HDA_SDIN2, B29 AC/HDA_SDIN1, B30 AC/HDA_SDIN0, B31 GND, B32 SPKR, B33 I2C_CK, B34 I2C_DAT, B35 THRM#, B36 USB7-, B37 USB7+, B38 USB_4_5_OC#, B39 USB5-, B40 USB5+, B41 GND, B42 USB3-, B43 USB3+, B44 USB_0_1_OC#, B45 USB1-, B46 USB1+, B47 EXCD1_PERST#, B48 EXCD1_CPPE#, B49 SYS_RESET#, B50 CB_RESET#, B51 GND, B52 RSVD, B53 RSVD, B54 GPO1, B55 RSVD, B56 RSVD, B57 GPO2, B58 PCIE_RX3+, B59 PCIE_RX3-, B60 GND, B61 PCIE_RX2+, B62 PCIE_RX2-, B63 GPO3, B64 PCIE_RX1+, B65 PCIE_RX1-, B66 WAKE0#, B67 WAKE1#, B68 PCIE_RX0+, B69 PCIE_RX0-, B70 GND, B71 DDI0_PAIR0+, B72 DDI0_PAIR0-, B73 DDI0_PAIR1+, B74 DDI0_PAIR1-, B75 DDI0_PAIR2+, B76 DDI0_PAIR2-, B77 DDI0_PAIR4+, B78 DDI0_PAIR4-, B79 LVDC_BKLT_EN, B80 GND, B81 DDI0_PAIR3+, B82 DDI0_PAIR3-, B83 LVDC_BKLT_CTRL, B84 VCC_5V_SBY, B85 VCC_5V_SBY, B86 VCC_5V_SBY, B87 VCC_5V_SBY, B88 BIOS_DIS1#, B89 DDI0_HPD, B90 GND, B91 DDI0_PAIR5+, B92 DDI0_PAIR5-, B93 DDI0_PAIR6+, B94 DDI0_PAIR6-, B95 DDI0_DDC_AUX_SEL, B96 USB_HOST_PRSNT, B97 SPI_CS#, B98 DDI0_CTRLCLK_AUX+, B99 DDI0_CTRLDATA_AUX-, B100 GND, B101 FAN_PWMOUT, B102 FAN_TACHIN, B103 SLEEP#, B104 VCC_12V, B105 VCC_12V, B106 VCC_12V, B107 VCC_12V, B108 VCC_12V, B109 VCC_12V, B110 GND

## CONN-00079
designator J?, comment 1003-004-01010  (value not drawn)
USB-A Jack x2, USB 3.0, Right-Angle, Thru-Hole; Part Number: CONN-00079; Manufacturer: CNC Tech; Positions per level: 9; Levels: 2; Type: Jack; Manufacturer PN: 1003-004-01010; Cost: 3.95; Distributor Link: https://www.digikey.com/en/products/detail/cnc-tech/1003-004-01010/3466939
footprint CNC_TECH_1003-004-01010
part A pins: 1 VCC, 2 DM, 3 DP, 4 GND, 5 StdA_SSRX-, 6 StdA_SSRX+, 7 GND_DRAIN, 8 StdA_SSTX-, 9 StdA_SSTX+
part B pins: 10 VCC, 11 DM, 12 DP, 13 GND, 14 StdA_SSRX-, 15 StdA_SSRX+, 16 GND_DRAIN, 17 StdA_SSTX-, 18 StdA_SSTX+, 19 SHIELD
part A text: USB-A
part B text: USB-A

## CONN-00080
designator J?, comment 10029449-111RLF
HDMI Type A Jack, Right-Angle, SMD+Thru-Hole; Part Number: CONN-00080; Manufacturer: Amphenol; Positions per level: 19; Levels: 1; Current: 0.5; Type: Jack; Manufacturer PN: 10029449-111RLF; Cost: 0.8; Distributor Link: https://www.digikey.com/en/products/detail/amphenol-icc-fci/10029449-111RLF/2785386
footprint AMPHENOL_10029449
pins: 1 TMDS_D2+, 2 TMDS_D2_SHIELD, 3 TMDS_D2-, 4 TMDS_D1+, 5 TMDS_D1_SHIELD, 6 TMDS_D1-, 7 TMDS_D0+, 8 TMDS_D0_SHIELD, 9 TMDS_D0-, 10 TMDS_CLK+, 11 TMDS_CLK_SHIELD, 12 TMDS_CLK-, 13 CEC, 14 RSVD, 15 I2C_SCL, 16 I2C_SDA, 17 GND, 18 +5V, 19 HPD/HEAC-, 20 CHASSIS

## CONN-00081
designator J?, comment ICD15S13E6GV00LF
VGA Jack, 15-Pos D-Sub, Right-Angle, Thru-Hole; Part Number: CONN-00081; Manufacturer: Amphenol; Positions per level: 15; Levels: 3; Type: Jack; Manufacturer PN: ICD15S13E6GV00LF; Cost: 2.15
footprint AMPHENOL_ICD15S13E6GV00LF
pins: 1 RED, 2 GREEN, 3 BLUE, 4 ID2/RES, 5 GND, 6 RED_RTN, 7 GREEN_RTN, 8 BLUE_RTN, 9 KEY/PWR, 10 GND, 11 ID0/RES, 12 ID1/SDA, 13 HSync, 14 VSync, 15 ID3/SCL, 16 CHASSIS
text: VGA

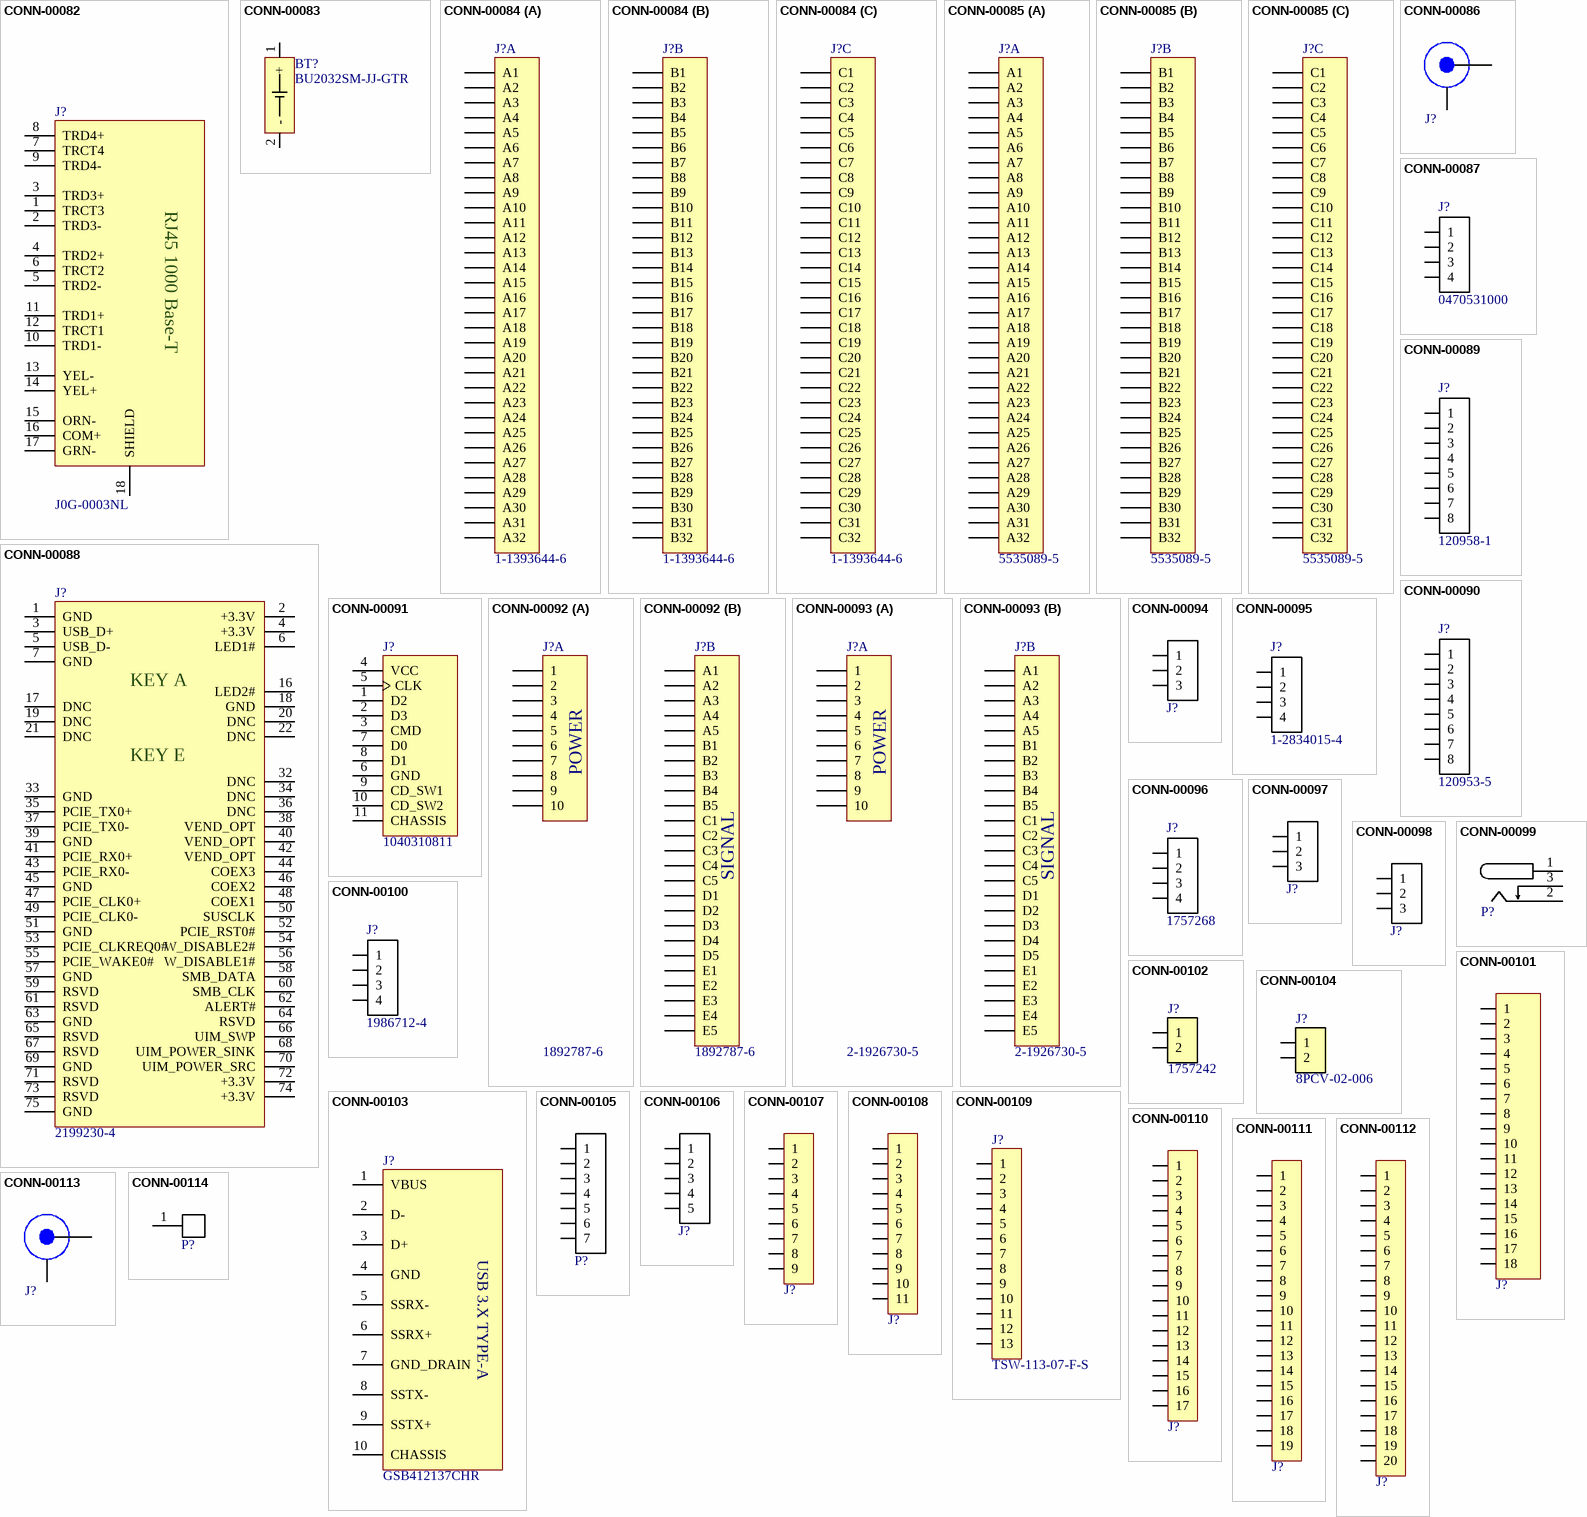
[diagram p4: symbols CONN-00082 to CONN-00114]

## CONN-00082
designator J?, comment J0G-0003NL
RJ45 Modular Mag-jack, 8P8C, 1000 Base-T, Horizontal; Part Number: CONN-00082; Manufacturer: Pulse Electronics Network; Positions per level: 8; Levels: 1; Type: Jack; Manufacturer PN: J0G-0003NL; Cost: 10.26; Distributor Link: https://www.digikey.com/en/products/detail/pulse-electronics-network/J0G-0003NL/2264761
footprint J0G-0003NL
pins: 1 TRCT3, 2 TRD3-, 3 TRD3+, 4 TRD2+, 5 TRD2-, 6 TRCT2, 7 TRCT4, 8 TRD4+, 9 TRD4-, 10 TRD1-, 11 TRD1+, 12 TRCT1, 13 YEL-, 14 YEL+, 15 ORN-, 16 COM+, 17 GRN-, 18 SHIELD
text: RJ45 1000 Base-T

## CONN-00083
designator BT?, comment BU2032SM-JJ-GTR
Battery Holder, Coin Cell CR2032, SMD; Part Number: CONN-00083; Manufacturer: Memory Protection Devices; Manufacturer PN: BU2032SM-JJ-GTR; Cost: 1
footprint BU2032SM-JJ-GTR
pins: 1 +, 2 -

## CONN-00084
designator J?, comment 1-1393644-6
DIN 41612 Plug, 96-Pos, Male Pins, Right-Angle; Part Number: CONN-00084; Manufacturer: TE Connectivity; Positions per level: 32; Levels: 3; Type: Plug; Manufacturer PN: 1-1393644-6; Cost: 7.49; Distributor Link: https://www.digikey.com/en/products/detail/te-connectivity-amp-connectors/1-1393644-6/2268175
footprint TE_CONN_1-1393644-6
part A pins: A1, A2, A3, A4, A5, A6, A7, A8, A9, A10, A11, A12, A13, A14, A15, A16, A17, A18, A19, A20, A21, A22, A23, A24, A25, A26, A27, A28, A29, A30, A31, A32
part B pins: B1, B2, B3, B4, B5, B6, B7, B8, B9, B10, B11, B12, B13, B14, B15, B16, B17, B18, B19, B20, B21, B22, B23, B24, B25, B26, B27, B28, B29, B30, B31, B32
part C pins: C1, C2, C3, C4, C5, C6, C7, C8, C9, C10, C11, C12, C13, C14, C15, C16, C17, C18, C19, C20, C21, C22, C23, C24, C25, C26, C27, C28, C29, C30, C31, C32

## CONN-00085
designator J?, comment 5535089-5
DIN 41612 Socket, 96-Pos, Female Sockets, Thru-Hole; Part Number: CONN-00085; Manufacturer: TE Connectivity; Positions per level: 32; Levels: 3; Type: Socket; Manufacturer PN: 5535089-5; Cost: 5.17
footprint TE_CONN_5535089-5
part A pins: A1, A2, A3, A4, A5, A6, A7, A8, A9, A10, A11, A12, A13, A14, A15, A16, A17, A18, A19, A20, A21, A22, A23, A24, A25, A26, A27, A28, A29, A30, A31, A32
part B pins: B1, B2, B3, B4, B5, B6, B7, B8, B9, B10, B11, B12, B13, B14, B15, B16, B17, B18, B19, B20, B21, B22, B23, B24, B25, B26, B27, B28, B29, B30, B31, B32
part C pins: C1, C2, C3, C4, C5, C6, C7, C8, C9, C10, C11, C12, C13, C14, C15, C16, C17, C18, C19, C20, C21, C22, C23, C24, C25, C26, C27, C28, C29, C30, C31, C32

## CONN-00086
designator J?, comment conn-bnc_0  (value not drawn)
BNC Jack, 50 Ohm, Right-Angle, Thru-Hole; Part Number: CONN-00086; Manufacturer: TE Connectivity; Manufacturer PN: 5-1634556-0; Type: Jack; Cost: 3.78
footprint TE_CONN_5-1634556-0
pins: 1, 2

## CONN-00087
designator J?, comment 0470531000
Header, 4-Pos, Molex-47053, (CPU Fan Header); Part Number: CONN-00087; Manufacturer: Molex; Positions per level: 4; Levels: 1; Type: Header; Manufacturer PN: 0470531000; Cost: 0.46
footprint MOLEX_0470531000
pins: 1, 2, 3, 4

## CONN-00088
designator J?, comment 2199230-4
Card-Edge Socket, NGFF (M.2) E-Keyed, PCIe Card Socket; Part Number: CONN-00088; Manufacturer: TE Connectivity; Type: Card Socket; Manufacturer PN: 2199230-4; Cost: 1.33
footprint TE_CONN_2199230-4
pins: 1 GND, 2 +3.3V, 3 USB_D+, 4 +3.3V, 5 USB_D-, 6 LED1#, 7 GND, 16 LED2#, 17 DNC, 18 GND, 19 DNC, 20 DNC, 21 DNC, 22 DNC, 32 DNC, 33 GND, 34 DNC, 35 PCIE_TX0+, 36 DNC, 37 PCIE_TX0-, 38 VEND_OPT, 39 GND, 40 VEND_OPT, 41 PCIE_RX0+, 42 VEND_OPT, 43 PCIE_RX0-, 44 COEX3, 45 GND, 46 COEX2, 47 PCIE_CLK0+, 48 COEX1, 49 PCIE_CLK0-, 50 SUSCLK, 51 GND, 52 PCIE_RST0#, 53 PCIE_CLKREQ0#, 54 W_DISABLE2#, 55 PCIE_WAKE0#, 56 W_DISABLE1#, 57 GND, 58 SMB_DATA, 59 RSVD, 60 SMB_CLK, 61 RSVD, 62 ALERT#, 63 GND, 64 RSVD, 65 RSVD, 66 UIM_SWP, 67 RSVD, 68 UIM_POWER_SINK, 69 GND, 70 UIM_POWER_SRC, 71 RSVD, 72 +3.3V, 73 RSVD, 74 +3.3V, 75 GND
text: KEY A; KEY E

## CONN-00089
designator J?, comment 120958-1
Header, Blade Power Connector, 8-pos, Edge-mounted; Part Number: CONN-00089; Manufacturer: TE Connectivity; Positions per level: 8; Levels: 1; Type: Header; Manufacturer PN: 120958-1; Cost: 13.14
footprint TE_CONN_120958-1
pins: 1, 2, 3, 4, 5, 6, 7, 8

## CONN-00090
designator J?, comment 120953-5
Socket, Blade Receptacle, 8-pos, Vertical; Part Number: CONN-00090; Manufacturer: TE Connectivity; Positions per level: 8; Levels: 1; Type: Socket; Manufacturer PN: 120953-5; Cost: 7.35
footprint TE_CONN_120953-5
pins: 1, 2, 3, 4, 5, 6, 7, 8

## CONN-00091
designator J?, comment 1040310811
Micro SD Card Slot, Push-Pull w/ Card-Detect Switch, SMD, Molex; Part Number: CONN-00091; Positions per level: 10; Levels: 1; Type: Card Socket; Manufacturer: Molex; Manufacturer PN: 1040310811; Cost: 2.02; Distributor Link: https://www.digikey.com/en/products/detail/molex/1040310811/2370379
footprint MOLEX_1040310811
pins: 1 D2, 2 D3, 3 CMD, 4 VCC, 5 CLK, 6 GND, 7 D0, 8 D1, 9 CD_SW1, 10 CD_SW2, 11 CHASSIS

## CONN-00092
designator J?, comment 1892787-6
Backplane Receptacle, Blade and Pin Sockets, 10 Power, 25 Signal; Part Number: CONN-00092; Manufacturer: TE Connectivity; Positions per level: 35; Levels: 1; Type: Receptacle; Manufacturer PN: 1892787-6; Cost: 11.45
footprint TE_CONN_1892787-6
part A pins: 1, 2, 3, 4, 5, 6, 7, 8, 9, 10
part B pins: A1, A2, A3, A4, A5, B1, B2, B3, B4, B5, C1, C2, C3, C4, C5, D1, D2, D3, D4, D5, E1, E2, E3, E4, E5
part A text: POWER
part B text: SIGNAL

## CONN-00093
designator J?, comment 2-1926730-5
Backplane Header, Blades and Pins, Edge Mount Right Angle, 10 Power 25 Signal; Part Number: CONN-00093; Manufacturer: TE Connectivity; Positions per level: 35; Levels: 1; Type: Header; Manufacturer PN: 2-1926730-5; Cost: 11.68
footprint TE_CONN_2-1926730-5
part A pins: 1, 2, 3, 4, 5, 6, 7, 8, 9, 10
part B pins: A1, A2, A3, A4, A5, B1, B2, B3, B4, B5, C1, C2, C3, C4, C5, D1, D2, D3, D4, D5, E1, E2, E3, E4, E5
part A text: POWER
part B text: SIGNAL

## CONN-00094
designator J?, comment conn-3x1_0  (value not drawn)
Terminal Block, 3-Pos, 2.54mm, Screwless, Vertical, THT; Part Number: CONN-00094; Manufacturer: TE Connectivity; Manufacturer PN: 1-2834015-3; Positions per level: 3; Levels: 1; Type: Terminal Block; Cost: 1.16
footprint TE_CONN_1-2834015-3
pins: 1, 2, 3

## CONN-00095
designator J?, comment 1-2834015-4
Terminal Block, 4-Pos, 2.54mm, Screwless, Vertical, THT; Part Number: CONN-00095; Manufacturer: TE Connectivity; Positions per level: 4; Levels: 1; Type: Terminal Block; Manufacturer PN: 1-2834015-4; Cost: 1.51
footprint TE_CONN_1-2834015-4
pins: 1, 2, 3, 4

## CONN-00096
designator J?, comment 1757268
Terminal Block Header, 4 pos, 12A 300V, Right-Angle, THT; Part Number: CONN-00096; Manufacturer: Phoenix Contact; Positions per level: 4; Levels: 1; Type: Terminal Block; Manufacturer PN: 1757268; Cost: 1.4
footprint PHOENIX_1757268
pins: 1, 2, 3, 4

## CONN-00097
designator J?, comment conn-3x1_0  (value not drawn)
Terminal Blk, 3 Pos, 20A, 5.0mm Pitch, Screwless, 12-24AWG; Part Number: CONN-00097; Manufacturer: Phoenix Contact; Manufacturer PN: 1991105; Positions per level: 3; Levels: 1; Type: Terminal Block; Cost: 1.8
footprint PHOENIX_1991105
pins: 1, 2, 3

## CONN-00098
designator J?, comment conn-3x1_0  (value not drawn)
Power Entry Receptacle, IEC320-C14, Thru-Hole+Panel-Mount; Part Number: CONN-00098; Manufacturer: TE Connectivity; Manufacturer PN: 6ESRM-P; Positions per level: 3; Levels: 1; Type: Receptacle; Cost: 3.58
footprint TE_CONN_6ESRM-P
pins: 1, 2, 3

## CONN-00099
designator P?, comment conn-barrel_0  (value not drawn)
Barrel Jack, 2.5x5.5mm IDxOD, Right-Angle; Part Number: CONN-00099; Manufacturer: Switchcraft; Manufacturer PN: RAPC712X; Positions per level: 3; Levels: 1; Type: Barrel Jack; Cost: 1.64
footprint SWITCHCRAFT_RAPC722X
pins: 1 VCC, 2 GND, 3

## CONN-00100
designator J?, comment 1986712-4
Terminal Blk, 4 Pos, 16A, 5.08mm Pitch, Screwless, Horizontal, 12-24AWG; Part Number: CONN-00100; Manufacturer: TE Connectivity; Positions per level: 4; Levels: 1; Type: Terminal Block; Manufacturer PN: 1986712-4; Cost: 3.13
footprint TE_CONN_1986712-4
pins: 1, 2, 3, 4

## CONN-00101
designator J?, comment conn-18x1_0  (value not drawn)
Header, 18x1, 0.1", Vertical; Part Number: CONN-00101; Manufacturer: Samtec; Manufacturer PN: TSW-118-07-G-S; Positions per level: 18; Levels: 1; Type: Header; Cost: 1.66
footprint HDDR_18x1_0
pins: 1, 2, 3, 4, 5, 6, 7, 8, 9, 10, 11, 12, 13, 14, 15, 16, 17, 18

## CONN-00102
designator J?, comment 1757242
Terminal Blk Header, 2 Pos, 5.08mm, 12A, Right-Angle; Part Number: CONN-00102; Manufacturer: Phoenix Contact; Positions per level: 2; Levels: 1; Type: Terminal Block; Manufacturer PN: 1757242; Cost: 0.64
footprint PHOENIX_1757242
pins: 1, 2

## CONN-00103
designator J?, comment GSB412137CHR
USB-A Jack x1, USB 3.x, Vertical, Thru-Hole; Part Number: CONN-00103; Manufacturer: Amphenol; Positions per level: 9; Levels: 1; Type: Jack; Manufacturer PN: GSB412137CHR; Cost: 1.59
footprint AMPHENOL_GSB412137CHR
pins: 1 VBUS, 2 D-, 3 D+, 4 GND, 5 SSRX-, 6 SSRX+, 7 GND_DRAIN, 8 SSTX-, 9 SSTX+, 10 CHASSIS
text: USB 3.X TYPE-A

## CONN-00104
designator J?, comment 8PCV-02-006
Barrier Block, 2-Pos, 30A 600V, 11.12mm Pitch; Part Number: CONN-00104; Manufacturer: TE Connectivity; Positions per level: 2; Levels: 1; Type: Barrier Block; Manufacturer PN: 8PCV-02-006; Cost: 1.84
footprint TE_CONN_8PCV-02-006
pins: 1, 2

## CONN-00105
designator P?, comment conn-7x1_0  (value not drawn)
Header, 7x1, 0.1"; Part Number: CONN-00105; Manufacturer: Samtec; Manufacturer PN: TSW-107-07-F-S; Positions per level: 7; Levels: 1; Type: Header; Cost: 0.61
footprint HDDR_7x1_0
pins: 1, 2, 3, 4, 5, 6, 7

## CONN-00106
designator J?, comment conn-5x1_0  (value not drawn)
Header, 5x1, 0.1"; Part Number: CONN-00106; Manufacturer: Samtec; Manufacturer PN: TSW-105-07-F-S; Positions per level: 5; Levels: 1; Type: Header
footprint HDDR_5x1_0
pins: 1, 2, 3, 4, 5

## CONN-00107
designator J?, comment conn-9x1_0  (value not drawn)
Header, 9x1, 0.1"; Part Number: CONN-00107; Manufacturer: Samtec; Manufacturer PN: TSW-109-07-F-S; Positions per level: 9; Levels: 1; Type: Header
footprint HDDR_9x1_0
pins: 1, 2, 3, 4, 5, 6, 7, 8, 9

## CONN-00108
designator J?, comment conn-11x1_0  (value not drawn)
Header, 11x1, 0.1"; Part Number: CONN-00108; Manufacturer: Samtec; Manufacturer PN: TSW-111-07-F-S; Positions per level: 11; Levels: 1; Type: Header
footprint HDDR_11x1_0
pins: 1, 2, 3, 4, 5, 6, 7, 8, 9, 10, 11

## CONN-00109
designator J?, comment TSW-113-07-F-S
Header, 13x1, 0.1"; Part Number: CONN-00109; Manufacturer: Samtec; Positions per level: 13; Levels: 1; Type: Header; Manufacturer PN: TSW-113-07-F-S
footprint HDDR_13x1_0
pins: 1, 2, 3, 4, 5, 6, 7, 8, 9, 10, 11, 12, 13

## CONN-00110
designator J?, comment conn-17x1_0  (value not drawn)
Header, 17x1, 0.1"; Part Number: CONN-00110; Manufacturer: Samtec; Manufacturer PN: TSW-117-07-F-S; Positions per level: 17; Levels: 1; Type: Header
footprint HDDR_17x1_0
pins: 1, 2, 3, 4, 5, 6, 7, 8, 9, 10, 11, 12, 13, 14, 15, 16, 17

## CONN-00111
designator J?, comment conn-19x1_0  (value not drawn)
Header, 19x1, 0.1"; Part Number: CONN-00111; Manufacturer: Samtec; Manufacturer PN: TSW-119-07-F-S; Positions per level: 19; Levels: 1; Type: Header
footprint HDDR_19x1_0
pins: 1, 2, 3, 4, 5, 6, 7, 8, 9, 10, 11, 12, 13, 14, 15, 16, 17, 18, 19

## CONN-00112
designator J?, comment conn-20x1_0  (value not drawn)
Header, 20x1, 0.1"; Part Number: CONN-00112; Manufacturer: Samtec; Manufacturer PN: TSW-120-07-F-S; Positions per level: 20; Levels: 1; Type: Header
footprint HDDR_20x1_0
pins: 1, 2, 3, 4, 5, 6, 7, 8, 9, 10, 11, 12, 13, 14, 15, 16, 17, 18, 19, 20

## CONN-00113
designator J?, comment conn-bnc_0  (value not drawn)
SMA Female Receptacle, 50 Ohm, 18GHz, Thru-Hole; Part Number: CONN-00113; Manufacturer: Molex; Manufacturer PN: 733910060; Positions per level: 1; Type: Receptacle; Levels: 1; Cost: 3.14
footprint MOLEX_0733910070
pins: 1, 2

## CONN-00114
designator P?, comment conn-1x1_0  (value not drawn)
Screw Terminal, #10-32, 2-Pin, 30A; Part Number: CONN-00114; Manufacturer: Keystone; Manufacturer PN: 1299; Positions per level: 1; Type: Screw Terminal; Levels: 1; Cost: 0.93
footprint KEYSTONE_1299
pins: 1 P

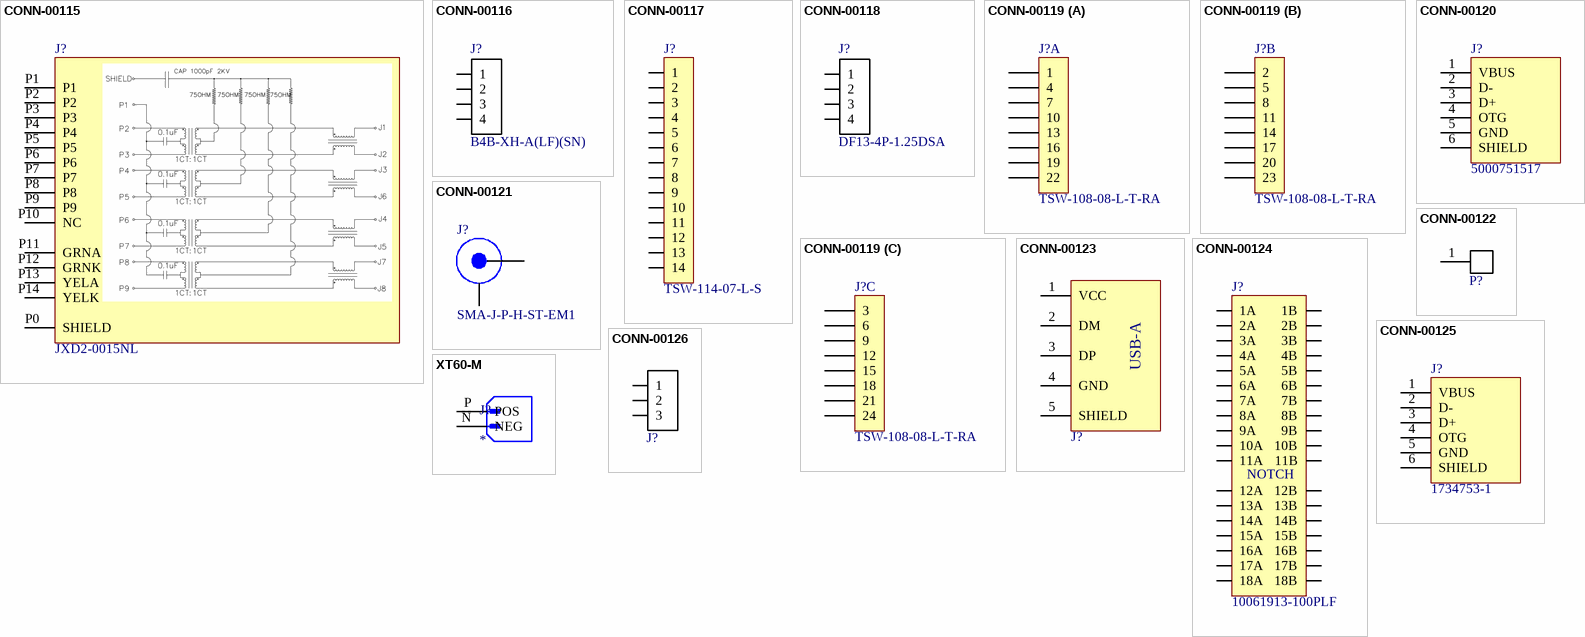
[diagram p5: symbols CONN-00115 to XT60-M]

## CONN-00115
designator J?, comment JXD2-0015NL
RJ45 Modular Mag-jack, 8P8C, 1000 Base-T, Vertical; Part Number: CONN-00115; Manufacturer: Pulse Electronics Network; Positions per level: 8; Levels: 1; Type: Jack; Manufacturer PN: JXD2-0015NL; Cost: 7.63
footprint PULSE_JXD2-0015NL
pins: P0 SHIELD, P1, P2, P3, P4, P5, P6, P7, P8, P9, P10 NC, P11 GRNA, P12 GRNK, P13 YELA, P14 YELK

## CONN-00116
designator J?, comment B4B-XH-A(LF)(SN)
JST XH 4-Pos, 2.5mm Pitch, THT; Part Number: CONN-00116; Positions per level: 4; Levels: 1; Current: 3; Type: Thru-hole; Manufacturer: JST; Manufacturer PN: B4B-XH-A(LF)(SN); Cost: 0.21; Distributor Link: https://www.digikey.com/en/products/detail/jst-sales-america-inc/B4B-XH-A-LF-SN/1651047
footprint JST_XH_4_0
pins: 1, 2, 3, 4

## CONN-00117
designator J?, comment TSW-114-07-L-S
Header, 14x1, 0.1"; Part Number: CONN-00117; Manufacturer: Samtec; Positions per level: 14; Levels: 1; Type: Header; Manufacturer PN: TSW-114-07-L-S; Cost: 1.14; Distributor Link: https://www.digikey.com/en/products/detail/samtec-inc/TSW-114-07-L-S/1101413
footprint HDDR_14x1_0
pins: 1, 2, 3, 4, 5, 6, 7, 8, 9, 10, 11, 12, 13, 14

## CONN-00118
designator J?, comment DF13-4P-1.25DSA
Header, 4-Pos, Shrouded, 1.25mm Pitch, Vertical, Thru-Hole; Part Number: CONN-00118; Manufacturer: Hirose Electric Co Ltd; Positions per level: 4; Levels: 1; Type: Header; Manufacturer PN: DF13-4P-1.25DSA; Cost: 0.44; Distributor Link: https://www.digikey.com/en/products/detail/DF13-4P-1.25DSA/H2193-ND/241767
footprint HIROSE_DF13-4P-1-25DSA
pins: 1, 2, 3, 4

## CONN-00119
designator J?, comment TSW-108-08-L-T-RA
Header, 8x3, 0.1", 24-Pos, Right-Angle; Part Number: CONN-00119; Manufacturer: Samtec; Positions per level: 8; Levels: 3; Type: Header; Manufacturer PN: TSW-108-08-L-T-RA; Cost: 2.55; Distributor Link: https://www.digikey.com/en/products/detail/samtec-inc/TSW-108-08-L-T-RA/7869092
footprint HDDR_8x3_RA
part A pins: 1, 4, 7, 10, 13, 16, 19, 22
part B pins: 2, 5, 8, 11, 14, 17, 20, 23
part C pins: 3, 6, 9, 12, 15, 18, 21, 24

## CONN-00120
designator J?, comment 5000751517
USB Mini B, Vertical, Thru-Hole, Molex; Part Number: CONN-00120; Positions per level: 5; Levels: 1; Type: Receptacle; Manufacturer: Molex; Manufacturer PN: 5000751517; Cost: 3.94; Distributor Link: https://www.digikey.com/en/products/detail/molex/5000751517/1643336
footprint MOLEX_5000751517
pins: 1 VBUS, 2 D-, 3 D+, 4 OTG, 5 GND, 6 SHIELD

## CONN-00121
designator J?, comment SMA-J-P-H-ST-EM1
SMA Jack Female, 50 Ohm, Edge Launch, 20GHz; Part Number: CONN-00121; Manufacturer: Samtec; Positions per level: 1; Type: Jack; Levels: 1; Manufacturer PN: SMA-J-P-H-ST-EM1; Cost: 4.15; Distributor Link: https://www.digikey.com/en/products/detail/samtec-inc/SMA-J-P-H-ST-EM1/2602450
footprint SAMTEC_SMA-J-P-H-ST-EM1
pins: 1, 2

## CONN-00122
designator P?, comment conn-1x1_0  (value not drawn)
Turret Terminal, Single, 7.14mm, Tin Plated; Part Number: CONN-00122; Manufacturer: Keystone Electronics; Manufacturer PN: 1514-2; Positions per level: 1; Type: Turret Terminal; Levels: 1; Cost: 0.49; Distributor Link: https://www.digikey.com/en/products/detail/keystone-electronics/1514-2/318251
footprint KEYSTONE_1514-2
pins: 1 P

## CONN-00123
designator J?, comment usb_a  (value not drawn)
USB-A Receptacle x1, USB 2.0, Right-Angle, SMD; Part Number: CONN-00123; Manufacturer: Amphenol; Manufacturer PN: 87583-3010RPALF; Positions per level: 4; Levels: 1; Type: Receptacle; Cost: 0.89; Distributor Link: https://www.digikey.com/en/products/detail/amphenol-icc-fci/87583-3010RPALF/4266975
footprint AMPHENOL_87583-3010RPALF
pins: 1 VCC, 2 DM, 3 DP, 4 GND, 5 SHIELD
text: USB-A

## CONN-00124
designator J?, comment 10061913-100PLF
PCIe x1 Socket, 36-Pos, SMD, Amphenol; Part Number: CONN-00124; Positions per level: 36; Levels: 1; Type: Socket; Manufacturer: Amphenol; Manufacturer PN: 10061913-100PLF; Cost: 2.71; Distributor Link: https://www.digikey.com/en/products/detail/amphenol-icc-fci/10061913-100PLF/5200984
footprint AMPHENOL_10061913
pins: 1A, 1B, 2A, 2B, 3A, 3B, 4A, 4B, 5A, 5B, 6A, 6B, 7A, 7B, 8A, 8B, 9A, 9B, 10A, 10B, 11A, 11B, 12A, 12A 12B, 13A, 13B, 14A, 14B, 15A, 15B, 16A, 16B, 17A, 17B, 18A, 18B
text: NOTCH

## CONN-00125
designator J?, comment 1734753-1
USB Mini B Receptacle, USB 2.0, Vertical, Thru-Hole; Part Number: CONN-00125; Manufacturer: TE Connectivity; Positions per level: 5; Levels: 1; Type: Receptacle; Manufacturer PN: 1734753-1; Cost: 1.87; Distributor Link: https://www.digikey.com/en/products/detail/te-connectivity-amp-connectors/1734753-1/4021671
footprint TE_1734753-1
pins: 1 VBUS, 2 D-, 3 D+, 4 OTG, 5 GND, 6 SHIELD

## CONN-00126
designator J?, comment conn-3x1_0  (value not drawn)
Terminal Block, 3 Pos, 2A, 3.5mm Pitch, Screwless; Part Number: CONN-00126; Manufacturer: Phoenix Contact; Manufacturer PN: 1985205; Positions per level: 3; Levels: 1; Type: Terminal Block; Cost: 0.53; Distributor Link: https://www.digikey.com/en/products/detail/phoenix-contact/1985205/568660
footprint Phoenix_1985205
pins: 1, 2, 3

## XT60-M
designator J?
Plug; DC supply; XT60; male; PIN: 2; for cable; soldered; 30A; 500V; MP: XT60-M; MF: AMASS; Price: None; Availability: Not in stock; Package: Package; Value: *; SnapEDA_Link: https://www.snapeda.com/parts/XT60-M/AMASS/view-part/?ref=snap; Check_prices: https://www.snapeda.com/parts/XT60-M/AMASS/view-part/?ref=eda
footprint AMASS_XT60-M
pins: N NEG, P POS